# EAGLE library part MCP2515(MCP2510) (library SPEAR-arm-control)
CAN controller with SPI interface The MCP2515 controller supercedes the MCP2510 while addressing all errata associated with it. The two devices are pin compatible, either can be used with this device. 18-pin package SOIC Simple SPI interface to any MCU. One-shot mode ensures message transmission is attempted only once Databyte filtering Start-of-Frame (SOF) output Low-power CMOS Technology Datasheet <http://www.sparkfun.com/datasheets/DevTools/Arduino/MCP2515.pdf> SparkFun Products CAN-BUS Shield <https://www.sparkfun.com/products/13262> (DEV-13262)
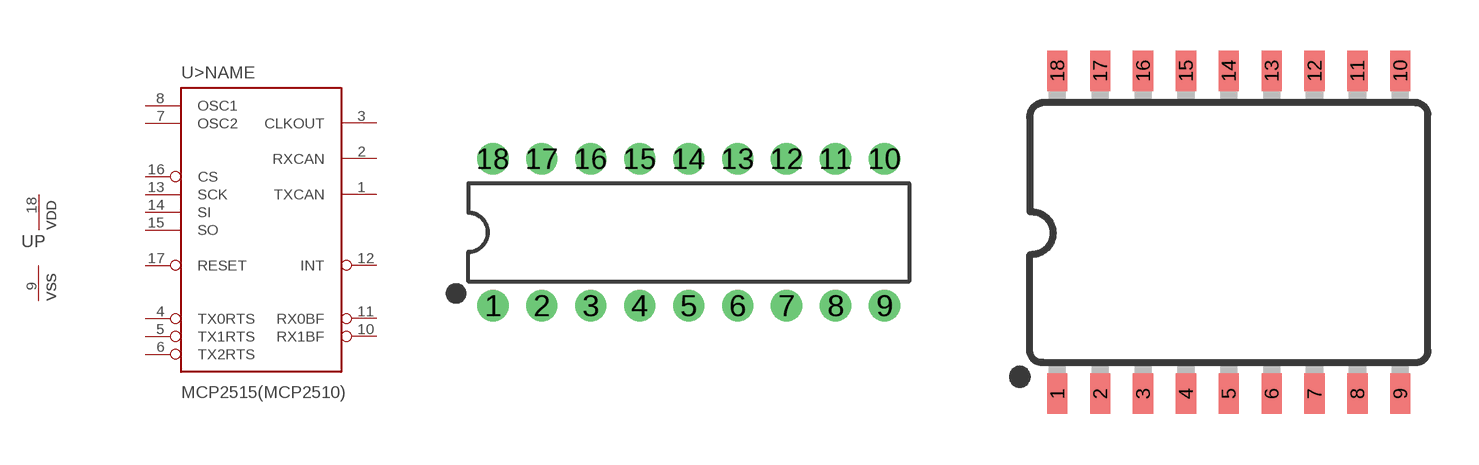
[diagram p1: symbol with the pads of DIP18; footprints DIP18, SO18W]

Designator prefix U; gates >NAME=MCP2510 P=PWRN-1

## MCP2515(MCP2510)P (PROD_ID: NA-XXXXX; VALUE: MCP2515)  [DIP18]
1  >NAME:TXCAN  out
2  >NAME:RXCAN  in
3  >NAME:CLKOUT  out
4  >NAME:TX0RTS  in
5  >NAME:TX1RTS  in
6  >NAME:TX2RTS  in
7  >NAME:OSC2  out
8  >NAME:OSC1  in
9  P:VSS  pwr
10  >NAME:RX1BF  out
11  >NAME:RX0BF  out
12  >NAME:INT  out
13  >NAME:SCK  in
14  >NAME:SI  in
15  >NAME:SO  out
16  >NAME:CS  in
17  >NAME:RESET  in
18  P:VDD  pwr

## MCP2515(MCP2510)SO (PROD_ID: IC-09906; VALUE: MCP2515)  [SO18W]
Pads as for DIP18

## Footprint DIP18 (pad centres in mm)
Dual In Line Package -18 Specifications: Pin count:18 Example device(s): MCP2515(MCP2510)
drill 0.813 pad 1.626: 1 -10.16,-3.81; 2 -7.62,-3.81; 3 -5.08,-3.81; 4 -2.54,-3.81; 5 0,-3.81; 6 2.54,-3.81; 7 5.08,-3.81; 8 7.62,-3.81; 9 10.16,-3.81; 10 10.16,3.81; 11 7.62,3.81; 12 5.08,3.81; 13 2.54,3.81; 14 0,3.81; 15 -2.54,3.81; 16 -5.08,3.81; 17 -7.62,3.81; 18 -10.16,3.81

## Footprint SO18W (pad centres in mm)
Small Outline Wide Plastic Gull Wing SOIC, 0.3 inch width
smd 0.6 x 1.2: 1 -5.08,-4.788; 2 -3.81,-4.788; 3 -2.54,-4.788; 4 -1.27,-4.788; 5 0,-4.788; 6 1.27,-4.788; 7 2.54,-4.788; 8 3.81,-4.788; 9 5.08,-4.788; 10 5.08,4.788; 11 3.81,4.788; 12 2.54,4.788; 13 1.27,4.788; 14 0,4.788; 15 -1.27,4.788; 16 -2.54,4.788; 17 -3.81,4.788; 18 -5.08,4.788